# EAGLE library part TXB0104 (library untitled)
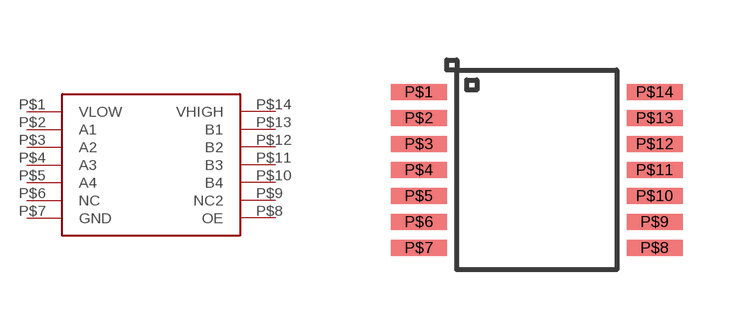
[diagram p29: symbol with the pads of TSSOP14; footprint TSSOP14]

Designator prefix -

## TXB0104  [TSSOP14]
P$1  VLOW
P$2  A1
P$3  A2
P$4  A3
P$5  A4
P$6  NC
P$7  GND
P$8  OE
P$9  NC2
P$10  B4
P$11  B3
P$12  B2
P$13  B1
P$14  VHIGH

## Footprint TSSOP14 (pad centres in mm)
smd 1.4 x 0.4: P$1 -2.95,1.95; P$2 -2.95,1.3; P$3 -2.95,0.65; P$4 -2.95,0; P$5 -2.95,-0.65; P$6 -2.95,-1.3; P$7 -2.95,-1.95; P$8 2.95,-1.95; P$9 2.95,-1.3; P$10 2.95,-0.65; P$11 2.95,0; P$12 2.95,0.65; P$13 2.95,1.3; P$14 2.95,1.95